# EAGLE library part STM32F031G4U6 (library STM32F031G4U6)
MCU 32-bit STM32 ARM Cortex M0 RISC 16KB Flash 2.5V/3.3V 28-Pin UFQFPN Tray
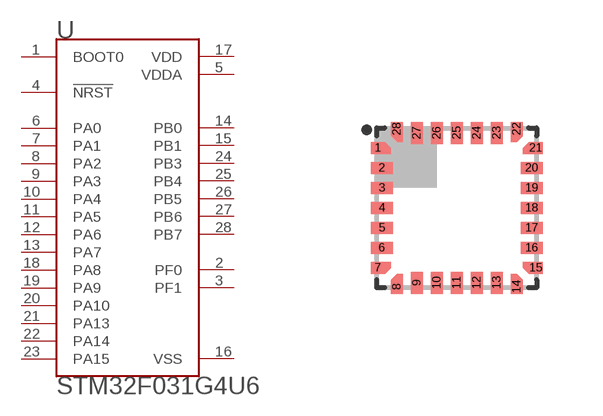
[diagram p0: symbol with the pads of QFN50P400X400X60-28N; footprint QFN50P400X400X60-28N]

Designator prefix U

## STM32F031G4U6 (Availability: Unavailable; Description: MCU 32-bit STM32 ARM Cortex M0 RISC 16KB Flash 2.5V/3.3V 28-Pin UFQFPN Tray; MF: STMicroelectronics; MP: STM32F031G4U6; Package: QFN-28 STMicroelectronics; Price: None)  [QFN50P400X400X60-28N]
1  BOOT0  in
2  PF0
3  PF1
4  !NRST
5  VDDA  pwr
6  PA0
7  PA1
8  PA2
9  PA3
10  PA4
11  PA5
12  PA6
13  PA7
14  PB0
15  PB1
16  VSS  pas
17  VDD  pwr
18  PA8
19  PA9
20  PA10
21  PA13
22  PA14
23  PA15
24  PB3
25  PB4
26  PB5
27  PB6
28  PB7

## Footprint QFN50P400X400X60-28N (pad centres in mm)
smd 0.35 x 0.3: 1 -1.975,1.5; 7 -1.975,-1.5; 15 1.975,-1.5; 21 1.975,1.5
smd 0.55 x 0.3: 2 -1.875,1; 3 -1.875,0.5; 4 -1.875,0; 5 -1.875,-0.5; 6 -1.875,-1; 16 1.875,-1; 17 1.875,-0.5; 18 1.875,0; 19 1.875,0.5; 20 1.875,1
smd 0.3 x 0.35: 8 -1.5,-1.975; 14 1.5,-1.975; 22 1.5,1.975; 28 -1.5,1.975
smd 0.3 x 0.55: 9 -1,-1.875; 10 -0.5,-1.875; 11 0,-1.875; 12 0.5,-1.875; 13 1,-1.875; 23 1,1.875; 24 0.5,1.875; 25 0,1.875; 26 -0.5,1.875; 27 -1,1.875